# EAGLE library part MC10162 (library ecl)
ECL DEVICE
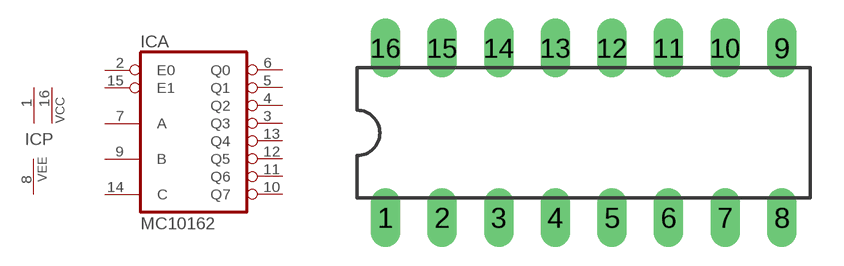
[diagram p22: symbol with the pads of DIL16; footprint DIL16]

Designator prefix IC; gates A=MC10162 P=2VCC1VEE

## MC10162  [DIL16]
1  P:VCC  pwr
2  A:E0  in
3  A:Q3  out
4  A:Q2  out
5  A:Q1  out
6  A:Q0  out
7  A:A  in
8  P:VEE  pwr
9  A:B  in
10  A:Q7  out
11  A:Q6  out
12  A:Q5  out
13  A:Q4  out
14  A:C  in
15  A:E1  in
16  P:VCC  pwr

## Footprint DIL16 (pad centres in mm)
Dual In Line Package
drill 0.813 long: 1 -8.89,-3.81; 2 -6.35,-3.81; 3 -3.81,-3.81; 4 -1.27,-3.81; 5 1.27,-3.81; 6 3.81,-3.81; 7 6.35,-3.81; 8 8.89,-3.81; 9 8.89,3.81; 10 6.35,3.81; 11 3.81,3.81; 12 1.27,3.81; 13 -1.27,3.81; 14 -3.81,3.81; 15 -6.35,3.81; 16 -8.89,3.81